# Altium footprint library Diode_SMD.PcbLib: 100 footprints (part 4 of 7)
Each footprint in its own frame and in the unit in brackets; x right, y up, seen from the top. Pads: shape width x height; smd on the part's side, far side on the other; paste and mask are expansions set on the pad; w line width, h text height; cw(c..) or ccw(c..) is an arc to the next point about the centre after c.
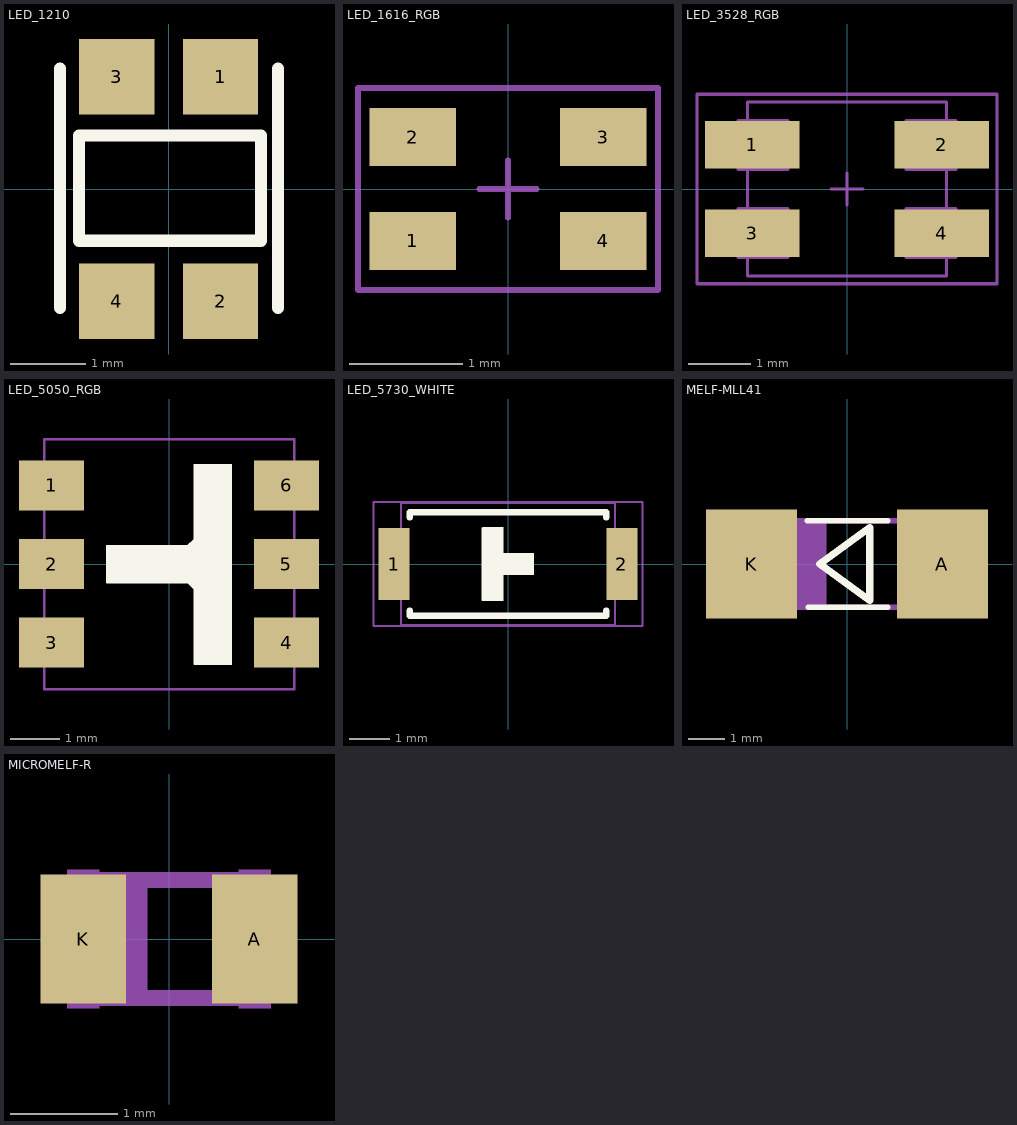
[diagram p3: the footprints below, top view; thin cyan lines are the x and y axes]

## LED_1210 [mm]
pads (4):
  rect 1x1 smd: 1(0.688,1.489) 2(0.688,-1.489) 3(-0.688,1.489) 4(-0.688,-1.489)
Top Overlay:
  lines w0.16: -1.442,-1.575 -1.442,1.6 ; 1.453,-1.575 1.453,1.6 ; -1.188,-0.686 -1.188,0.711 1.225,0.711 1.225,-0.686 -1.188,-0.686
3D body "led_1210.step": height 1.1, standoff -0.05, extent -1.347,-1.62 1.353,1.62

## LED_1616_RGB [mil]
height 47.24
pads (4):
  rect 30x20 smd: 1(-33,-18) 2(-33,18) 3(33,18) 4(33,-18)
Mechanical 13:
  lines w2: -10,0 10,0 ; 0,-10 0,10
Mechanical 14:
  lines w2: -52,-35 52,-35 52,35 -52,35 -52,-35
3D body "User Library-HSMF-C114.STEP": height 13.39, standoff -0.39, extent -31.49,-29.52 31.5,29.53

## LED_3528_RGB [mil]
height 47.24
pads (4):
  rect 60x30 smd: 1(-60,28) 2(60,28) 3(-60,-28) 4(60,-28)
Mechanical 13:
  lines w2: -62.99,-43.43 -62.99,-55.12 62.99,-55.12 62.99,-43.43 ; -62.99,-12.4 -62.99,12.4 ; -62.99,43.43 -62.99,55.12 62.99,55.12 62.99,43.43 ; -10,0 10,0 ; 0,-10 0,10 ; 62.99,-12.4 62.99,12.4 ; -68.9,-43.31 -68.9,-12.4 -37.4,-12.4 -37.4,-43.31 -68.9,-43.31 ; -68.9,12.4 -68.9,43.31 -37.4,43.31 -37.4,12.4 -68.9,12.4 ; 37.4,-43.31 37.4,-12.4 68.9,-12.4 68.9,-43.31 37.4,-43.31 ; 37.4,12.4 37.4,43.31 68.9,43.31 68.9,12.4 37.4,12.4
Mechanical 14:
  lines w2: -95,-60 95,-60 95,60 -95,60 -95,-60
3D body "User Library-KAA-3528.STEP": height 74.8, standoff 0, extent -68.9,-55.12 68.9,55.11

## LED_5050_RGB [mil]
height 47.24
pads (6):
  rect 52x40 smd: 1(-94,62.99) 2(-94,0) 3(-94,-62.99) 4(94,-62.99) 5(94,0) 6(94,62.99)
Top Overlay:
  region: 20,80 50,80 50,-80 20,-80 20,-20 15,-15 -50,-15 -50,15 15,15 20,20
  lines w1: -50,-15 15,-15 20,-20 20,-80 50,-80 50,80 20,80 20,20 15,15 -50,15 -50,-15
Mechanical 15:
  lines w2: -100,-100 -100,100 100,100 100,-100 -100,-100
3D body "User Library-smd_led_5050.STEP": height 62.99, standoff 0, extent -104.33,-98.5 104.33,98.35

## LED_5730_WHITE [mil]
pads (2):
  rect 30x70 smd: 1(-110,0) 2(110,0)
Top Overlay:
  region: -24.5,35.5 -4.5,35.5 -4.5,10.5 25,10.5 25,-10.5 -4.5,-10.5 -4.5,-35.5 -24.5,-35.5
  lines w1: -25,-35 -25,35 -4.5,35 -4.5,10 25,10 25,-10 -4.5,-10 -4.5,-35 -25,-35
  lines w6: -95,-45 -95,-50 95,-50 95,-45 ; -95,45 -95,50 95,50 95,45
Mechanical 13:
  lines w2: -103.35,-59.06 -103.35,59.06 103.35,59.06 103.35,-59.06 -103.35,-59.06
Mechanical 14:
  lines w2: -130,-60 -130,60 130,60 130,-60 -130,-60

## LED_DIP2_3_BLUE [mm]
height 1.2
3D body "User Library-LED_d3-BLU.STEP": height 4.98, standoff -2.5, extent -1.651,-1.646 1.562,1.651

## LED_DIP2_3_GREEN [mm]
height 1.2
3D body "SW3dPS-LEDd3G.STEP": height 5.51, standoff -2.49, extent -2.032,-1.638 1.268,1.651

## LED_DIP2_3_RED [mm]
height 1.2
3D body "SW3dPS-LEDd3R.STEP": height 5.51, standoff -2.49, extent -1.777,-1.765 1.523,1.524

## LED_DIP2_3_YELLOW [mm]
height 1.2
3D body "SW3dPS-LEDd3Y.STEP": height 5.51, standoff -2.49, extent -1.776,-1.517 1.524,1.771

## LED_DIP2_5_BLUE [mm]
height 1.2
3D body "User Library-LEDd5B.STEP": height 12.31, standoff -2.49, extent -2.345,-2.883 3.075,3.137

## LED_DIP2_5_GREEN [mm]
height 1.2
3D body "SW3dPS-LEDd5G.STEP": height 12.31, standoff -2.49, extent -2.345,-3.264 3.075,2.756

## LED_DIP2_5_RED [mm]
height 1.2
3D body "SW3dPS-LEDd5R.STEP": height 12.31, standoff -2.49, extent -3.134,-3.137 2.286,2.883

## LED_DIP2_5_WHITE [mm]
height 1.2
3D body "SW3dPS-LEDd5C.STEP": height 12.31, standoff -2.49, extent -2.726,-3.01 2.694,3.01

## LED_DIP2_5_YELLOW [mm]
height 1.2
3D body "SW3dPS-LEDd5Y.STEP": height 12.31, standoff -2.49, extent -2.88,-2.883 2.54,3.137

## MELF-MLL41 [mm]
pads (2):
  rect 2.5x3 smd: A(2.625,0) K(-2.625,0)
Top Overlay:
  lines w0.152: -1.097,1.194 1.121,1.194 ; -1.072,-1.194 1.121,-1.194
  lines w0.203: -0.746,0 0.627,-1 0.627,1 -0.746,0
Mechanical 16:
  rectangle: -1.448,-1.194 -0.559,1.194
  rectangle: -2.616,-1.27 -2.108,1.27
  rectangle: 2.057,-1.27 2.565,1.27
  lines w0.152: -2.159,1.194 2.083,1.194 ; -2.134,-1.194 2.083,-1.194
3D body "User Library-Vishay - MELF DO-213AB.step": height 2.66, standoff -0.01, extent -2.575,-1.375 2.625,1.295

## MICROMELF-R [mil]
pads (2):
  rect 31.5x47.24 smd: A(31.5,0) K(-31.5,0)
Mechanical 16:
  rectangle: -37.4,-25.59 -25.59,25.59
  rectangle: 25.59,-25.59 37.4,25.59
  rectangle: -19.69,-21.65 -7.87,21.65
  lines w6: -25.59,-21.65 25.59,-21.65 ; -25.59,21.65 25.59,21.65